# EAGLE library part CC110L (library chips)
The CC110L is a cost optimized sub-1 GHz RF transceiver for the 300–348 MHz, 387–464 MHz, and 779–928 MHz frequency bands.
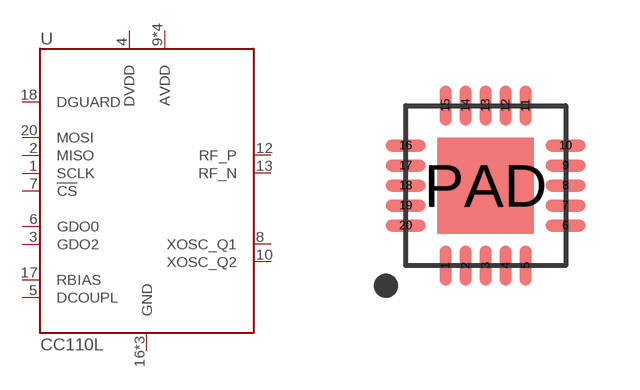
[diagram p34: symbol with the pads of S-PVQFN-N20-RGP; footprint S-PVQFN-N20-RGP]

Designator prefix U

## CC110L (DIGIKEY: 296-35719-1-ND)  [S-PVQFN-N20-RGP]
1  SCLK
2  MISO
3  GDO2
4  DVDD
5  DCOUPL
6  GDO0
7  !CS
8  XOSC_Q1
9  AVDD
10  XOSC_Q2
11  AVDD
12  RF_P
13  RF_N
14  AVDD
15  AVDD
16  GND
17  RBIAS
18  DGUARD
19  GND
20  MOSI
PAD  GND

## Footprint S-PVQFN-N20-RGP (pad centres in mm)
smd 0.3 x 1: 1 -1,-2; 2 -0.5,-2; 3 0,-2; 4 0.5,-2; 5 1,-2; 11 1,2; 12 0.5,2; 13 0,2; 14 -0.5,2; 15 -1,2
smd 1 x 0.3: 6 2,-1; 7 2,-0.5; 8 2,0; 9 2,0.5; 10 2,1; 16 -2,1; 17 -2,0.5; 18 -2,0; 19 -2,-0.5; 20 -2,-1
smd 2.4 x 2.4: PAD 0,0